# EAGLE library part ACS711 (library Strutz Electronic Industries)
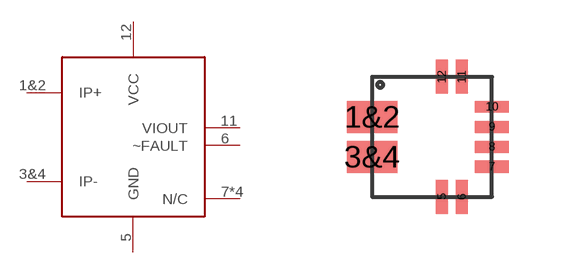
[diagram p50: symbol with the pads of QFN-12; footprint QFN-12]

Designator prefix -

## ACS711  [QFN-12]
1&2  IP+
3&4  IP-
5  GND
6  ~FAULT
7  N/C
8  N/C
9  N/C
10  N/C
11  VIOUT
12  VCC

## Footprint QFN-12 (pad centres in mm)
smd 1.27 x 0.8: 1&2 -1.5,0.5; 3&4 -1.5,-0.5
smd 0.3 x 0.85: 5 0.25,-1.5; 6 0.75,-1.5; 11 0.75,1.5; 12 0.25,1.5
smd 0.85 x 0.3: 7 1.5,-0.75; 8 1.5,-0.25; 9 1.5,0.25; 10 1.5,0.75